# Altium schematic symbol library testpoint.SchLib: 1 symbol
Pins are listed as number, name and electrical type; pins without a type are passive.

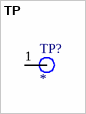
[diagram p0: symbol TP]

## TP
designator TP?
footprint Testpoint
pins: 1 Input